# Altium footprint library Vishay.PcbLib: 3 footprints
Each footprint in its own frame and in the unit in brackets; x right, y up, seen from the top. Pads: shape width x height; smd on the part's side, far side on the other; paste and mask are expansions set on the pad; w line width, h text height; cw(c..) or ccw(c..) is an arc to the next point about the centre after c.
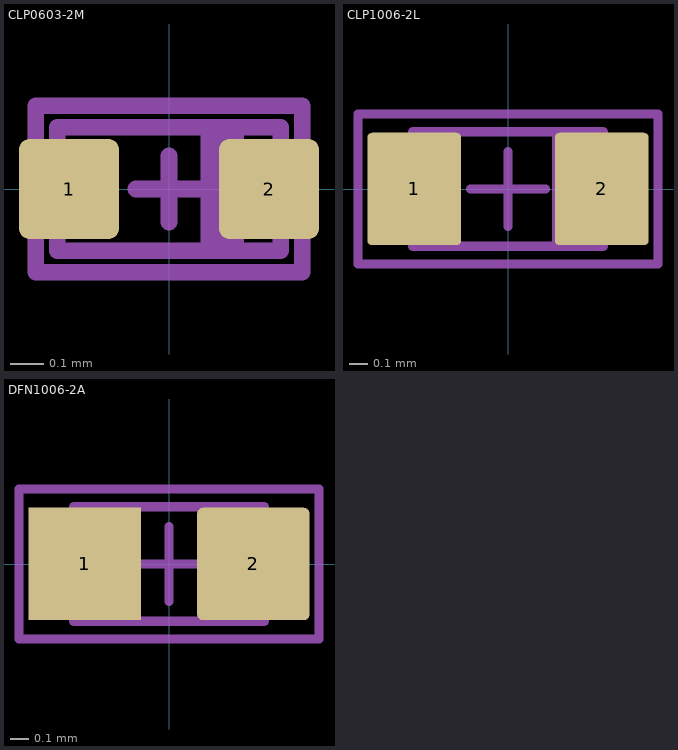
[diagram p0: the footprints below, top view; thin cyan lines are the x and y axes]

## CLP0603-2M [mm]
pads (2):
  rrect20% 0.3x0.3 smd paste-0.015 mask+0.06: 1(-0.3,0) 2(0.3,0)
Top 3D Body:
  lines w0.05: 0.12,-0.185 0.12,0.185 ; 0.16,-0.185 0.16,0.185 ; 0.2,-0.185 0.2,0.185 ; -0.335,-0.185 -0.335,0.185 0.335,0.185 0.335,-0.185 -0.335,-0.185
Top Assembly (Mech15):
  lines w0.05: -0.1,0 0.1,0 ; 0,-0.1 0,0.1 ; -0.4,-0.25 -0.4,0.25 0.4,0.25 0.4,-0.25 -0.4,-0.25
3D body "Vishay_CLP0603-2M.stp": height 0.27, standoff -0.01, extent -0.305,-0.155 0.305,0.155

## CLP1006-2L [mm]
pads (2):
  rrect10% 0.5x0.6 smd paste-1 mask+0.06: 1(-0.5,0) 2(0.5,0)
Top Paste:
  rectangle: -0.73,-0.28 -0.395,0.28
  region: -0.445,-0.095 -0.255,0 -0.395,0.28 -0.585,0.185
  region: -0.585,-0.185 -0.395,-0.28 -0.255,0 -0.445,0.095
  region: 0.445,0.095 0.255,0 0.395,-0.28 0.585,-0.185
  region: 0.585,0.185 0.395,0.28 0.255,0 0.445,-0.095
  region: 0.73,0.28 0.395,0.28 0.395,-0.28 0.73,-0.28
Top 3D Body:
  lines w0.05: 0.26,-0.3 0.26,0.3 ; 0.3,-0.3 0.3,0.3 ; 0.34,-0.3 0.34,0.3 ; 0.36,-0.3 0.36,0.3
  lines w0.051: -0.508,-0.305 -0.508,0.305 0.508,0.305 0.508,-0.305 -0.508,-0.305
Top Assembly (Mech15):
  lines w0.05: -0.2,0 0.2,0 ; 0,-0.2 0,0.2 ; -0.8,-0.4 0.8,-0.4 0.8,0.4 -0.8,0.4 -0.8,-0.4
3D body "Vishay_CLP1006-2L.stp": height 0.27, standoff -0.01, extent -0.505,-0.305 0.505,0.305

## DFN1006-2A [mm]
pads (2):
  rect 0.6x0.6 smd paste-1 mask+0.04: 1(-0.45,0)
  rrect10% 0.6x0.6 smd paste-1 mask+0.04: 2(0.45,0)
Top Paste:
  region: 0.485,0.185 0.295,0.28 0.155,0 0.345,-0.095
  region: 0.345,0.095 0.155,0 0.295,-0.28 0.485,-0.185
  region: 0.7,0.28 0.295,0.28 0.295,-0.28 0.7,-0.28
  region: -0.345,-0.095 -0.155,0 -0.295,0.28 -0.485,0.185
  region: -0.485,-0.185 -0.295,-0.28 -0.155,0 -0.345,0.095
  rectangle: -0.7,-0.28 -0.295,0.28
Top 3D Body:
  lines w0.05: 0.26,-0.3 0.26,0.3 ; 0.3,-0.3 0.3,0.3 ; 0.34,-0.3 0.34,0.3 ; 0.36,-0.3 0.36,0.3
  lines w0.051: -0.508,-0.305 -0.508,0.305 0.508,0.305 0.508,-0.305 -0.508,-0.305
Top Assembly (Mech15):
  lines w0.05: -0.2,0 0.2,0 ; 0,-0.2 0,0.2 ; -0.8,-0.4 0.8,-0.4 0.8,0.4 -0.8,0.4 -0.8,-0.4
3D body "Vishay_DFN1006-2A.stp": height 0.48, standoff 0, extent -0.526,-0.325 0.526,0.325